# EAGLE library part PIC24FJ256GA110 (library PCB_KioskMB_r3.3-05)
PIC24FJ256GA110 High-Performance, 16-Bit PIC
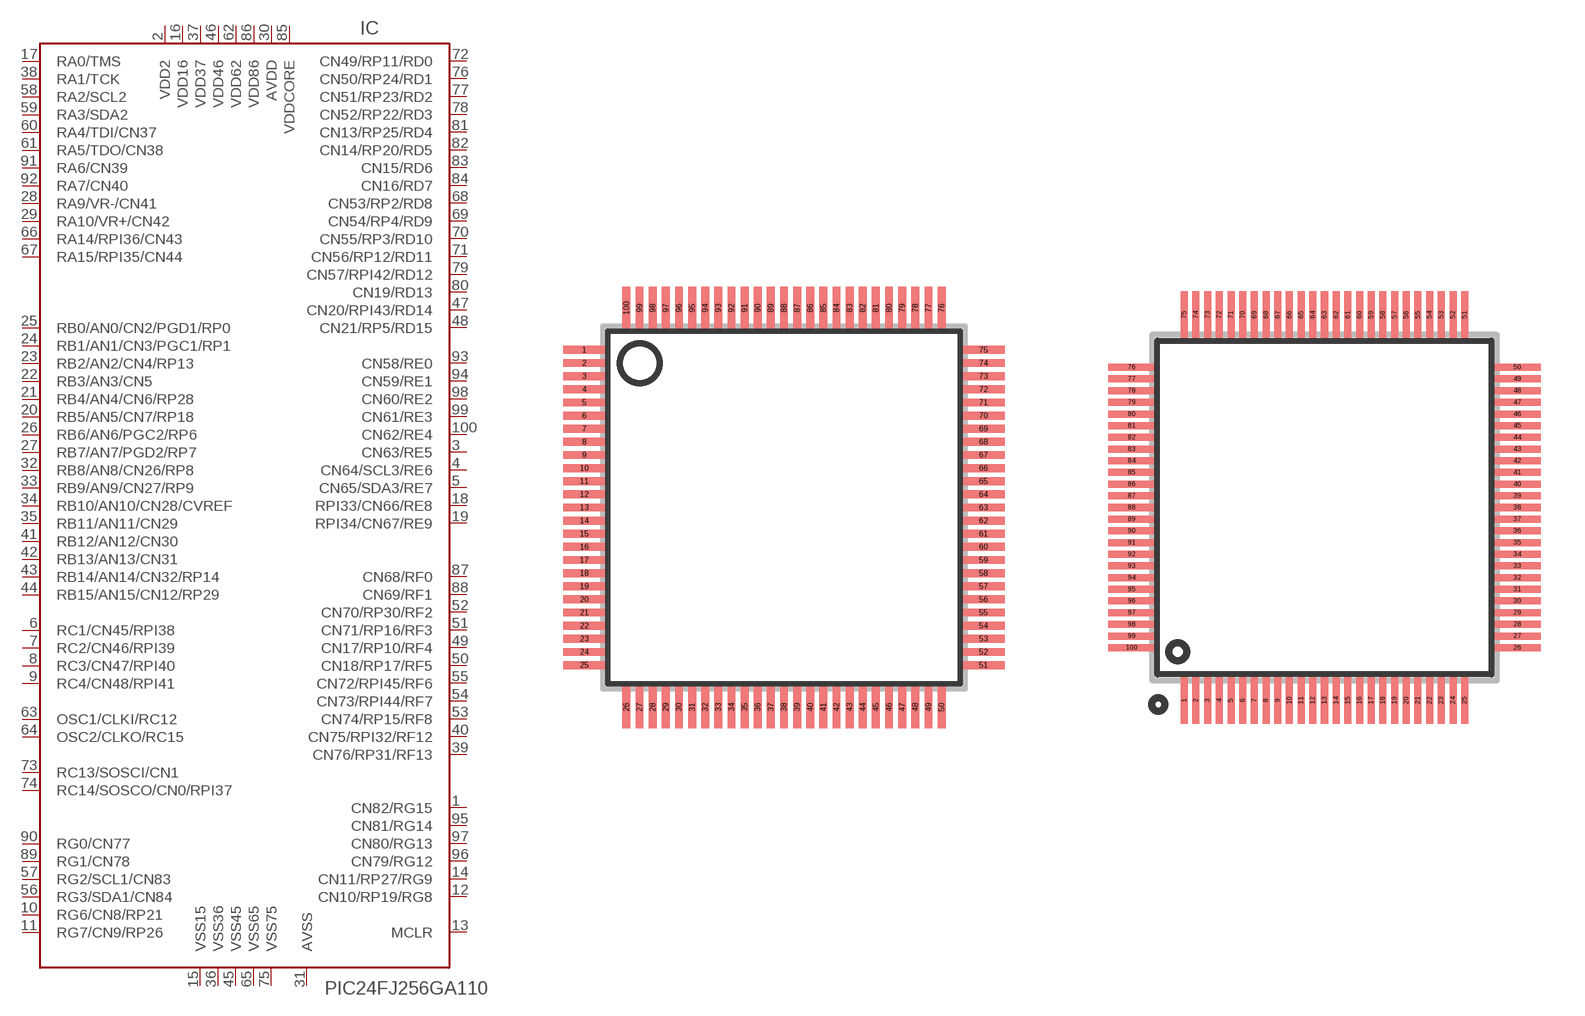
[diagram p18: symbol with the pads of TQFP-100; footprints TQFP-100, SQFP-S-12X12-100]

Designator prefix IC

## PIC24FJ256GA110-I/PF  [TQFP-100]
1  CN82/RG15
2  VDD2  pwr
3  CN63/RE5
4  CN64/SCL3/RE6
5  CN65/SDA3/RE7
6  RC1/CN45/RPI38
7  RC2/CN46/RPI39
8  RC3/CN47/RPI40
9  RC4/CN48/RPI41
10  RG6/CN8/RP21
11  RG7/CN9/RP26
12  CN10/RP19/RG8
13  MCLR  in
14  CN11/RP27/RG9
15  VSS15  sup
16  VDD16  pwr
17  RA0/TMS
18  RPI33/CN66/RE8
19  RPI34/CN67/RE9
20  RB5/AN5/CN7/RP18
21  RB4/AN4/CN6/RP28
22  RB3/AN3/CN5
23  RB2/AN2/CN4/RP13
24  RB1/AN1/CN3/PGC1/RP1
25  RB0/AN0/CN2/PGD1/RP0
26  RB6/AN6/PGC2/RP6
27  RB7/AN7/PGD2/RP7
28  RA9/VR-/CN41
29  RA10/VR+/CN42
30  AVDD  pwr
31  AVSS  sup
32  RB8/AN8/CN26/RP8
33  RB9/AN9/CN27/RP9
34  RB10/AN10/CN28/CVREF
35  RB11/AN11/CN29
36  VSS36  sup
37  VDD37  pwr
38  RA1/TCK
39  CN76/RP31/RF13
40  CN75/RPI32/RF12
41  RB12/AN12/CN30
42  RB13/AN13/CN31
43  RB14/AN14/CN32/RP14
44  RB15/AN15/CN12/RP29
45  VSS45  sup
46  VDD46  pwr
47  CN20/RPI43/RD14
48  CN21/RP5/RD15
49  CN17/RP10/RF4
50  CN18/RP17/RF5
51  CN71/RP16/RF3
52  CN70/RP30/RF2
53  CN74/RP15/RF8
54  CN73/RPI44/RF7
55  CN72/RPI45/RF6
56  RG3/SDA1/CN84
57  RG2/SCL1/CN83
58  RA2/SCL2
59  RA3/SDA2
60  RA4/TDI/CN37
61  RA5/TDO/CN38
62  VDD62  pwr
63  OSC1/CLKI/RC12
64  OSC2/CLKO/RC15
65  VSS65  sup
66  RA14/RPI36/CN43
67  RA15/RPI35/CN44
68  CN53/RP2/RD8
69  CN54/RP4/RD9
70  CN55/RP3/RD10
71  CN56/RP12/RD11
72  CN49/RP11/RD0
73  RC13/SOSCI/CN1
74  RC14/SOSCO/CN0/RPI37
75  VSS75  sup
76  CN50/RP24/RD1
77  CN51/RP23/RD2
78  CN52/RP22/RD3
79  CN57/RPI42/RD12
80  CN19/RD13
81  CN13/RP25/RD4
82  CN14/RP20/RD5
83  CN15/RD6
84  CN16/RD7
85  VDDCORE  pas
86  VDD86  pwr
87  CN68/RF0
88  CN69/RF1
89  RG1/CN78
90  RG0/CN77
91  RA6/CN39
92  RA7/CN40
93  CN58/RE0
94  CN59/RE1
95  CN81/RG14
96  CN79/RG12
97  CN80/RG13
98  CN60/RE2
99  CN61/RE3
100  CN62/RE4

## PIC24FJ256GA110-I/PT  [SQFP-S-12X12-100]
Pads as for TQFP-100

## Footprint TQFP-100 (pad centres in mm)
100-Lead Plastic Thin Quad Flatpack (PF) - 14x14x1 mm Body, 2.00 mm Footprint [TQFP] 0.5mm pitch Note: For the most current package drawings, please see the Microchip Packaging Specification located at http://www.microchip.com/packaging
smd 1.6 x 0.3: 1 -7.52,5.92; 2 -7.52,5.42; 3 -7.52,4.92; 4 -7.52,4.42; 5 -7.52,3.92; 6 -7.52,3.42; 7 -7.52,2.92; 8 -7.52,2.42; 9 -7.52,1.92; 10 -7.52,1.42; 11 -7.52,0.92; 12 -7.52,0.42; 13 -7.52,-0.08; 14 -7.52,-0.58; 15 -7.52,-1.08; 16 -7.52,-1.58; 17 -7.52,-2.08; 18 -7.52,-2.58; 19 -7.52,-3.08; 20 -7.52,-3.58; 21 -7.52,-4.08; 22 -7.52,-4.58; 23 -7.52,-5.08; 24 -7.52,-5.58; 25 -7.52,-6.08; 51 7.68,-6.08; 52 7.68,-5.58; 53 7.68,-5.08; 54 7.68,-4.58; 55 7.68,-4.08; 56 7.68,-3.58; 57 7.68,-3.08; 58 7.68,-2.58; 59 7.68,-2.08; 60 7.68,-1.58; 61 7.68,-1.08; 62 7.68,-0.58; 63 7.68,-0.08; 64 7.68,0.42; 65 7.68,0.92; 66 7.68,1.42; 67 7.68,1.92; 68 7.68,2.42; 69 7.68,2.92; 70 7.68,3.42; 71 7.68,3.92; 72 7.68,4.42; 73 7.68,4.92; 74 7.68,5.42; 75 7.68,5.92
smd 0.3 x 1.6: 26 -5.92,-7.68; 27 -5.42,-7.68; 28 -4.92,-7.68; 29 -4.42,-7.68; 30 -3.92,-7.68; 31 -3.42,-7.68; 32 -2.92,-7.68; 33 -2.42,-7.68; 34 -1.92,-7.68; 35 -1.42,-7.68; 36 -0.92,-7.68; 37 -0.42,-7.68; 38 0.08,-7.68; 39 0.58,-7.68; 40 1.08,-7.68; 41 1.58,-7.68; 42 2.08,-7.68; 43 2.58,-7.68; 44 3.08,-7.68; 45 3.58,-7.68; 46 4.08,-7.68; 47 4.58,-7.68; 48 5.08,-7.68; 49 5.58,-7.68; 50 6.08,-7.68; 76 6.08,7.52; 77 5.58,7.52; 78 5.08,7.52; 79 4.58,7.52; 80 4.08,7.52; 81 3.58,7.52; 82 3.08,7.52; 83 2.58,7.52; 84 2.08,7.52; 85 1.58,7.52; 86 1.08,7.52; 87 0.58,7.52; 88 0.08,7.52; 89 -0.42,7.52; 90 -0.92,7.52; 91 -1.42,7.52; 92 -1.92,7.52; 93 -2.42,7.52; 94 -2.92,7.52; 95 -3.42,7.52; 96 -3.92,7.52; 97 -4.42,7.52; 98 -4.92,7.52; 99 -5.42,7.52; 100 -5.92,7.52

## Footprint SQFP-S-12X12-100 (pad centres in mm)
(PT) TQFP100 0.4mm pitch 12x12mm shrink quad flat pack, square
smd 0.24 x 1.6: 1 -4.8,-6.6; 2 -4.4,-6.6; 3 -4,-6.6; 4 -3.6,-6.6; 5 -3.2,-6.6; 6 -2.8,-6.6; 7 -2.4,-6.6; 8 -2,-6.6; 9 -1.6,-6.6; 10 -1.2,-6.6; 11 -0.8,-6.6; 12 -0.4,-6.6; 13 0,-6.6; 14 0.4,-6.6; 15 0.8,-6.6; 16 1.2,-6.6; 17 1.6,-6.6; 18 2,-6.6; 19 2.4,-6.6; 20 2.8,-6.6; 21 3.2,-6.6; 22 3.6,-6.6; 23 4,-6.6; 24 4.4,-6.6; 25 4.8,-6.6; 51 4.8,6.6; 52 4.4,6.6; 53 4,6.6; 54 3.6,6.6; 55 3.2,6.6; 56 2.8,6.6; 57 2.4,6.6; 58 2,6.6; 59 1.6,6.6; 60 1.2,6.6; 61 0.8,6.6; 62 0.4,6.6; 63 0,6.6; 64 -0.4,6.6; 65 -0.8,6.6; 66 -1.2,6.6; 67 -1.6,6.6; 68 -2,6.6; 69 -2.4,6.6; 70 -2.8,6.6; 71 -3.2,6.6; 72 -3.6,6.6; 73 -4,6.6; 74 -4.4,6.6; 75 -4.8,6.6
smd 1.6 x 0.24: 26 6.6,-4.8; 27 6.6,-4.4; 28 6.6,-4; 29 6.6,-3.6; 30 6.6,-3.2; 31 6.6,-2.8; 32 6.6,-2.4; 33 6.6,-2; 34 6.6,-1.6; 35 6.6,-1.2; 36 6.6,-0.8; 37 6.6,-0.4; 38 6.6,0; 39 6.6,0.4; 40 6.6,0.8; 41 6.6,1.2; 42 6.6,1.6; 43 6.6,2; 44 6.6,2.4; 45 6.6,2.8; 46 6.6,3.2; 47 6.6,3.6; 48 6.6,4; 49 6.6,4.4; 50 6.6,4.8; 76 -6.6,4.8; 77 -6.6,4.4; 78 -6.6,4; 79 -6.6,3.6; 80 -6.6,3.2; 81 -6.6,2.8; 82 -6.6,2.4; 83 -6.6,2; 84 -6.6,1.6; 85 -6.6,1.2; 86 -6.6,0.8; 87 -6.6,0.4; 88 -6.6,0; 89 -6.6,-0.4; 90 -6.6,-0.8; 91 -6.6,-1.2; 92 -6.6,-1.6; 93 -6.6,-2; 94 -6.6,-2.4; 95 -6.6,-2.8; 96 -6.6,-3.2; 97 -6.6,-3.6; 98 -6.6,-4; 99 -6.6,-4.4; 100 -6.6,-4.8